# Altium schematic symbol library ADP3330.SchLib: 1 symbol
Pins are listed as number, name and electrical type; pins without a type are passive.

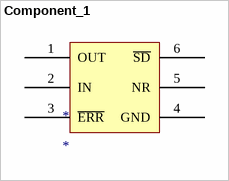
[diagram p0: symbol Component_1]

## Component_1
designator *
footprint SOT26A-6L (SOT23, 6-Leads, Body 2.9x1.7mm, Pitch 0.95mm, Lead Span 2.8mm, IPC High Density)
pins: 1 OUT (power), 2 IN (power), 3 ~{ERR}, 4 GND, 5 NR, 6 ~{SD}